# Altium integrated library Diodes - TVS.IntLib: 5379 symbols (part 106 of 122)
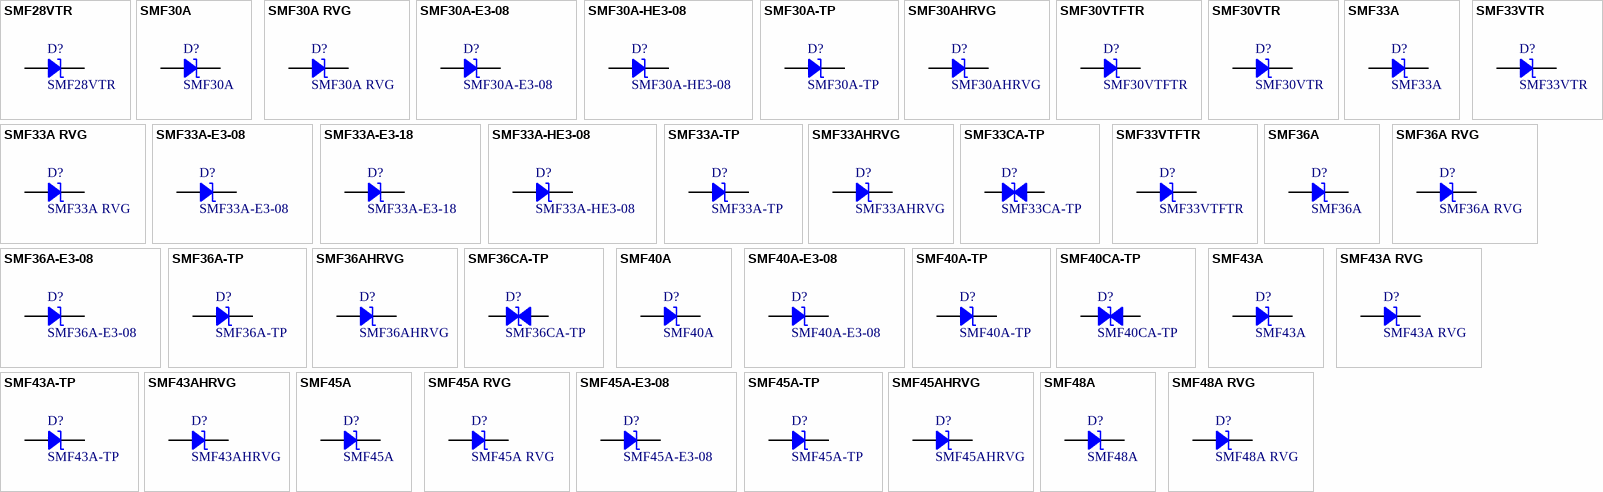
[diagram p239: symbols SMF28VTR to SMF48A RVG]

## SMF36CA-TP
designator D?
TVS DIODE 36V 58.1V SOD123FL; Manufacturer: Micro Commercial Co; Bidirectional Channels: 1; Current - Peak Pulse (10/1000µs): 3.4A; Power Line Protection: No; Power - Peak Pulse: 200W; Type: Zener; Voltage - Breakdown (Min): 40V; Part Number: SMF36CA-TP; Applications: General Purpose; ComponentLink1Description: Datasheet; ComponentLink1URL: https://www.mccsemi.com/pdf/Products/SMF5.0-170(SOD-123FL)-V2.pdf; ComponentLink2Description: DigiKey Link; ComponentLink2URL: http://digikey.com/product-detail/en/micro-commercial-co/SMF36CA-TP/SMF36CA-TPMSCT-ND/7681717; LastUpdated: 9/2/2020 1:28:38 AM; Lifecycle Status: Active; Minimum Order: 1; Mounting Type: Surface Mount; Operating Temperature: -65°C ~ 175°C (TA); Package / Case: SOD-123F; Packaging: TapeAndReel; PartId: 10251; Part Status: Active; Price: 0.09; Series: -; Supplier 1: DigiKey; Supplier Part Number 1: SMF36CA-TPMSCT-ND; Supplier Device Package: SOD-123FL; Voltage - Clamping (Max) @ Ipp: 58.1V; Voltage - Reverse Standoff (Typ): 36V
footprint SOD123F
pins: 1, 2

## SMF40A
designator D?
TVS DIODE 40V 64.5V SOD123F; Manufacturer: Littelfuse Inc.; Current - Peak Pulse (10/1000µs): 3.1A; Power Line Protection: No; Power - Peak Pulse: 200W; Type: Zener; Unidirectional Channels: 1; Voltage - Breakdown (Min): 44.4V; Part Number: SMF40A; Applications: General Purpose; ComponentLink1Description: Datasheet; ComponentLink1URL: https://www.littelfuse.com/~/media/electronics/datasheets/tvs_diodes/littelfuse_tvs_diode_smf_datasheet.pdf.pdf; ComponentLink2Description: DigiKey Link; ComponentLink2URL: http://digikey.com/product-detail/en/littelfuse-inc/SMF40A/F5829CT-ND/3672319; LastUpdated: 9/2/2020 1:28:37 AM; Lifecycle Status: Active; Minimum Order: 1; Mounting Type: Surface Mount; Operating Temperature: -55°C ~ 150°C (TJ); Package / Case: SOD-123F; Packaging: TapeAndReel; PartId: 10217; Part Status: Active; Price: 0.11; Series: SMF; Supplier 1: DigiKey; Supplier Part Number 1: F5829CT-ND; Supplier Device Package: SOD-123F; Voltage - Clamping (Max) @ Ipp: 64.5V; Voltage - Reverse Standoff (Typ): 40V
footprint SOD123F
pins: 1, 2

## SMF40A-E3-08
designator D?
TVS DIODE 40V 64.5V DO219AB; Manufacturer: Vishay Semiconductor Diodes Division; Capacitance @ Frequency: 172pF @ 1MHz; Current - Peak Pulse (10/1000µs): 3.1A; Power Line Protection: No; Power - Peak Pulse: 200W; Type: Zener; Unidirectional Channels: 1; Voltage - Breakdown (Min): 44.4V; Part Number: SMF40A-E3-08; Applications: General Purpose; ComponentLink1Description: Datasheet; ComponentLink1URL: http://www.vishay.com/docs/85881/smf5v0atosmf58a.pdf; ComponentLink2Description: DigiKey Link; ComponentLink2URL: http://digikey.com/product-detail/en/vishay-semiconductor-diodes-division/SMF40A-E3-08/SMF40A-E3-08GICT-ND/5639181; LastUpdated: 9/2/2020 1:27:46 AM; Lifecycle Status: Active; Minimum Order: 1; Mounting Type: Surface Mount; Operating Temperature: -65°C ~ 175°C (TJ); Package / Case: DO-219AB; Packaging: TapeAndReel; PartId: 5545; Part Status: Active; Price: 0.10; Series: -; Supplier 1: DigiKey; Supplier Part Number 1: SMF40A-E3-08GICT-ND; Supplier Device Package: SMF; Voltage - Clamping (Max) @ Ipp: 64.5V; Voltage - Reverse Standoff (Typ): 40V
footprint SMF DO-219AB
pins: 1, 2

## SMF40A-TP
designator D?
TVS DIODE 40V 64.5V SOD123FL; Manufacturer: Micro Commercial Co; Current - Peak Pulse (10/1000µs): 3.1A; Power Line Protection: No; Power - Peak Pulse: 200W; Type: Zener; Unidirectional Channels: 1; Voltage - Breakdown (Min): 44.4V; Part Number: SMF40A-TP; Applications: General Purpose; ComponentLink1Description: Datasheet; ComponentLink1URL: https://www.mccsemi.com/pdf/Products/SMF5.0-170(SOD-123FL)-V2.pdf; ComponentLink2Description: DigiKey Link; ComponentLink2URL: http://digikey.com/product-detail/en/micro-commercial-co/SMF40A-TP/SMF40A-TPMSCT-ND/5114023; LastUpdated: 9/2/2020 1:28:37 AM; Lifecycle Status: Active; Minimum Order: 1; Mounting Type: Surface Mount; Operating Temperature: -65°C ~ 175°C (TA); Package / Case: SOD-123F; Packaging: TapeAndReel; PartId: 10175; Part Status: Active; Price: 0.09; Series: -; Supplier 1: DigiKey; Supplier Part Number 1: SMF40A-TPMSCT-ND; Supplier Device Package: SOD-123FL; Voltage - Clamping (Max) @ Ipp: 64.5V; Voltage - Reverse Standoff (Typ): 40V
footprint SOD123F
pins: 1, 2

## SMF40CA-TP
designator D?
TVS DIODE 40V 64.5V SOD123FL; Manufacturer: Micro Commercial Co; Bidirectional Channels: 1; Current - Peak Pulse (10/1000µs): 3.1A; Power Line Protection: No; Power - Peak Pulse: 200W; Type: Zener; Voltage - Breakdown (Min): 44.4V; Part Number: SMF40CA-TP; Applications: General Purpose; ComponentLink1Description: Datasheet; ComponentLink1URL: https://www.mccsemi.com/pdf/Products/SMF5.0-170(SOD-123FL)-V2.pdf; ComponentLink2Description: DigiKey Link; ComponentLink2URL: http://digikey.com/product-detail/en/micro-commercial-co/SMF40CA-TP/SMF40CA-TPMSCT-ND/5224327; LastUpdated: 9/2/2020 1:28:38 AM; Lifecycle Status: Active; Minimum Order: 1; Mounting Type: Surface Mount; Operating Temperature: -65°C ~ 175°C (TA); Package / Case: SOD-123F; Packaging: TapeAndReel; PartId: 10258; Part Status: Active; Price: 0.09; Series: -; Supplier 1: DigiKey; Supplier Part Number 1: SMF40CA-TPMSCT-ND; Supplier Device Package: SOD-123FL; Voltage - Clamping (Max) @ Ipp: 64.5V; Voltage - Reverse Standoff (Typ): 40V
footprint SOD123F
pins: 1, 2

## SMF43A
designator D?
TVS DIODE 43V 69.4V SOD123F; Manufacturer: Littelfuse Inc.; Current - Peak Pulse (10/1000µs): 2.9A; Power Line Protection: No; Power - Peak Pulse: 200W; Type: Zener; Unidirectional Channels: 1; Voltage - Breakdown (Min): 47.8V; Part Number: SMF43A; Applications: General Purpose; ComponentLink1Description: Datasheet; ComponentLink1URL: https://www.littelfuse.com/~/media/electronics/datasheets/tvs_diodes/littelfuse_tvs_diode_smf_datasheet.pdf.pdf; ComponentLink2Description: DigiKey Link; ComponentLink2URL: http://digikey.com/product-detail/en/littelfuse-inc/SMF43A/F5830CT-ND/3672320; LastUpdated: 9/2/2020 1:28:36 AM; Lifecycle Status: Active; Minimum Order: 1; Mounting Type: Surface Mount; Operating Temperature: -55°C ~ 150°C (TJ); Package / Case: SOD-123F; Packaging: TapeAndReel; PartId: 10081; Part Status: Active; Price: 0.11; Series: SMF; Supplier 1: DigiKey; Supplier Part Number 1: F5830CT-ND; Supplier Device Package: SOD-123F; Voltage - Clamping (Max) @ Ipp: 69.4V; Voltage - Reverse Standoff (Typ): 43V
footprint SOD123F
pins: 1, 2

## SMF43A RVG
designator D?
DIODE, TVS, UNIDIRECTIONAL; Manufacturer: Taiwan Semiconductor Corporation; Current - Peak Pulse (10/1000µs): 2.9A; Power Line Protection: No; Power - Peak Pulse: 200W; Type: Zener; Unidirectional Channels: 1; Voltage - Breakdown (Min): 47.8V; Voltage - Clamping (Max) @ Ipp: 69.4V; Voltage - Reverse Standoff (Typ): 43V; Part Number: SMF43A RVG; Applications: General Purpose; ComponentLink1Description: Datasheet; ComponentLink1URL: https://www.taiwansemi.com/products/datasheet/SMF5.0A%20SERIES_B1709.pdf; ComponentLink2Description: DigiKey Link; ComponentLink2URL: http://digikey.com/product-detail/en/taiwan-semiconductor-corporation/SMF43A-RVG/SMF43ARVGCT-ND/8600433; LastUpdated: 9/2/2020 1:28:40 AM; Lifecycle Status: Active; Minimum Order: 1; Mounting Type: Surface Mount; Operating Temperature: -55°C ~ 175°C (TJ); Package / Case: SOD-123W; Packaging: TapeAndReel; PartId: 10342; Part Status: Active; Price: 0.08; Series: -; Supplier 1: DigiKey; Supplier Part Number 1: SMF43ARVGCT-ND; Supplier Device Package: SOD-123W
footprint SOD-123W
pins: 1, 2

## SMF43A-TP
designator D?
TVS DIODE 43V 69.4V SOD123FL; Manufacturer: Micro Commercial Co; Current - Peak Pulse (10/1000µs): 2.9A; Power Line Protection: No; Power - Peak Pulse: 200W; Type: Zener; Unidirectional Channels: 1; Voltage - Breakdown (Min): 47.8V; Part Number: SMF43A-TP; Applications: General Purpose; ComponentLink1Description: Datasheet; ComponentLink1URL: https://www.mccsemi.com/pdf/Products/SMF5.0-170(SOD-123FL)-F.pdf; ComponentLink2Description: DigiKey Link; ComponentLink2URL: http://digikey.com/product-detail/en/micro-commercial-co/SMF43A-TP/SMF43A-TPMSCT-ND/2268365; LastUpdated: 9/2/2020 1:28:37 AM; Lifecycle Status: Active; Minimum Order: 1; Mounting Type: Surface Mount; Operating Temperature: -65°C ~ 175°C (TA); Package / Case: SOD-123F; Packaging: TapeAndReel; PartId: 10174; Part Status: Active; Price: 0.09; Series: -; Supplier 1: DigiKey; Supplier Part Number 1: SMF43A-TPMSCT-ND; Supplier Device Package: SOD-123FL; Voltage - Clamping (Max) @ Ipp: 69.4V; Voltage - Reverse Standoff (Typ): 43V
footprint SOD123F
pins: 1, 2

## SMF43AHRVG
designator D?
DIODE, TVS, UNIDIRECTIONAL; Manufacturer: Taiwan Semiconductor Corporation; Current - Peak Pulse (10/1000µs): 2.9A; Power Line Protection: No; Power - Peak Pulse: 200W; Type: Zener; Unidirectional Channels: 1; Voltage - Breakdown (Min): 47.8V; Voltage - Clamping (Max) @ Ipp: 69.4V; Voltage - Reverse Standoff (Typ): 43V; Part Number: SMF43AHRVG; Applications: Automotive; ComponentLink1Description: Datasheet; ComponentLink1URL: https://www.taiwansemi.com/products/datasheet/SMF5.0A%20SERIES_B1709.pdf; ComponentLink2Description: DigiKey Link; ComponentLink2URL: http://digikey.com/product-detail/en/taiwan-semiconductor-corporation/SMF43AHRVG/SMF43AHRVGCT-ND/8600434; LastUpdated: 9/2/2020 1:28:40 AM; Lifecycle Status: Active; Minimum Order: 1; Mounting Type: Surface Mount; Operating Temperature: -55°C ~ 175°C (TJ); Package / Case: SOD-123W; Packaging: TapeAndReel; PartId: 10305; Part Status: Active; Price: 0.09; Series: Automotive, AEC-Q101; Supplier 1: DigiKey; Supplier Part Number 1: SMF43AHRVGCT-ND; Supplier Device Package: SOD-123W
footprint SOD-123W
pins: 1, 2

## SMF45A
designator D?
TVS DIODE 45V 72.7V SOD123F; Manufacturer: Littelfuse Inc.; Current - Peak Pulse (10/1000µs): 2.8A; Power Line Protection: No; Power - Peak Pulse: 200W; Type: Zener; Unidirectional Channels: 1; Voltage - Breakdown (Min): 50V; Part Number: SMF45A; Applications: General Purpose; ComponentLink1Description: Datasheet; ComponentLink1URL: https://www.littelfuse.com/~/media/electronics/datasheets/tvs_diodes/littelfuse_tvs_diode_smf_datasheet.pdf.pdf; ComponentLink2Description: DigiKey Link; ComponentLink2URL: http://digikey.com/product-detail/en/littelfuse-inc/SMF45A/F5831CT-ND/3672321; LastUpdated: 9/2/2020 1:28:35 AM; Lifecycle Status: Active; Minimum Order: 1; Mounting Type: Surface Mount; Operating Temperature: -55°C ~ 150°C (TJ); Package / Case: SOD-123F; Packaging: TapeAndReel; PartId: 10038; Part Status: Active; Price: 0.11; Series: SMF; Supplier 1: DigiKey; Supplier Part Number 1: F5831CT-ND; Supplier Device Package: SOD-123F; Voltage - Clamping (Max) @ Ipp: 72.7V; Voltage - Reverse Standoff (Typ): 45V
footprint SOD123F
pins: 1, 2

## SMF45A RVG
designator D?
DIODE, TVS, UNIDIRECTIONAL; Manufacturer: Taiwan Semiconductor Corporation; Current - Peak Pulse (10/1000µs): 2.8A; Power Line Protection: No; Power - Peak Pulse: 200W; Type: Zener; Unidirectional Channels: 1; Voltage - Breakdown (Min): 50V; Voltage - Clamping (Max) @ Ipp: 72.7V; Voltage - Reverse Standoff (Typ): 45V; Part Number: SMF45A RVG; Applications: General Purpose; ComponentLink1Description: Datasheet; ComponentLink1URL: https://www.taiwansemi.com/products/datasheet/SMF5.0A%20SERIES_B1709.pdf; ComponentLink2Description: DigiKey Link; ComponentLink2URL: http://digikey.com/product-detail/en/taiwan-semiconductor-corporation/SMF45A-RVG/SMF45ARVGCT-ND/8600435; LastUpdated: 9/2/2020 1:28:40 AM; Lifecycle Status: Active; Minimum Order: 1; Mounting Type: Surface Mount; Operating Temperature: -55°C ~ 175°C (TJ); Package / Case: SOD-123W; Packaging: TapeAndReel; PartId: 10341; Part Status: Active; Price: 0.08; Series: -; Supplier 1: DigiKey; Supplier Part Number 1: SMF45ARVGCT-ND; Supplier Device Package: SOD-123W
footprint SOD-123W
pins: 1, 2

## SMF45A-E3-08
designator D?
TVS DIODE 45V 72.7V DO219AB; Manufacturer: Vishay Semiconductor Diodes Division; Capacitance @ Frequency: 162pF @ 1MHz; Current - Peak Pulse (10/1000µs): 2.8A; Power Line Protection: No; Power - Peak Pulse: 200W; Type: Zener; Unidirectional Channels: 1; Voltage - Breakdown (Min): 50V; Part Number: SMF45A-E3-08; Applications: General Purpose; ComponentLink1Description: Datasheet; ComponentLink1URL: http://www.vishay.com/docs/85881/smf5v0atosmf58a.pdf; ComponentLink2Description: DigiKey Link; ComponentLink2URL: http://digikey.com/product-detail/en/vishay-semiconductor-diodes-division/SMF45A-E3-08/SMF45A-E3-08GICT-ND/5639183; LastUpdated: 9/2/2020 1:27:45 AM; Lifecycle Status: Active; Minimum Order: 1; Mounting Type: Surface Mount; Operating Temperature: -65°C ~ 175°C (TJ); Package / Case: DO-219AB; Packaging: TapeAndReel; PartId: 5508; Part Status: Active; Price: 0.10; Series: -; Supplier 1: DigiKey; Supplier Part Number 1: SMF45A-E3-08GICT-ND; Supplier Device Package: SMF; Voltage - Clamping (Max) @ Ipp: 72.7V; Voltage - Reverse Standoff (Typ): 45V
footprint SMF DO-219AB
pins: 1, 2

## SMF45A-TP
designator D?
TVS DIODE 45V 72.7V SOD123FL; Manufacturer: Micro Commercial Co; Current - Peak Pulse (10/1000µs): 2.8A; Power Line Protection: No; Power - Peak Pulse: 200W; Type: Zener; Unidirectional Channels: 1; Voltage - Breakdown (Min): 50V; Part Number: SMF45A-TP; Applications: General Purpose; ComponentLink1Description: Datasheet; ComponentLink1URL: https://www.mccsemi.com/pdf/Products/SMF5.0-170(SOD-123FL)-V2.pdf; ComponentLink2Description: DigiKey Link; ComponentLink2URL: http://digikey.com/product-detail/en/micro-commercial-co/SMF45A-TP/SMF45A-TPMSCT-ND/5114024; LastUpdated: 9/2/2020 1:28:36 AM; Lifecycle Status: Active; Minimum Order: 1; Mounting Type: Surface Mount; Operating Temperature: -65°C ~ 175°C (TA); Package / Case: SOD-123F; Packaging: TapeAndReel; PartId: 10075; Part Status: Active; Price: 0.09; Series: -; Supplier 1: DigiKey; Supplier Part Number 1: SMF45A-TPMSCT-ND; Supplier Device Package: SOD-123FL; Voltage - Clamping (Max) @ Ipp: 72.7V; Voltage - Reverse Standoff (Typ): 45V
footprint SOD123F
pins: 1, 2

## SMF45AHRVG
designator D?
DIODE, TVS, UNIDIRECTIONAL; Manufacturer: Taiwan Semiconductor Corporation; Current - Peak Pulse (10/1000µs): 2.8A; Power Line Protection: No; Power - Peak Pulse: 200W; Type: Zener; Unidirectional Channels: 1; Voltage - Breakdown (Min): 50V; Voltage - Clamping (Max) @ Ipp: 72.7V; Voltage - Reverse Standoff (Typ): 45V; Part Number: SMF45AHRVG; Applications: Automotive; ComponentLink1Description: Datasheet; ComponentLink1URL: https://www.taiwansemi.com/products/datasheet/SMF5.0A%20SERIES_B1709.pdf; ComponentLink2Description: DigiKey Link; ComponentLink2URL: http://digikey.com/product-detail/en/taiwan-semiconductor-corporation/SMF45AHRVG/SMF45AHRVGCT-ND/8600436; LastUpdated: 9/2/2020 1:28:40 AM; Lifecycle Status: Active; Minimum Order: 1; Mounting Type: Surface Mount; Operating Temperature: -55°C ~ 175°C (TJ); Package / Case: SOD-123W; Packaging: TapeAndReel; PartId: 10296; Part Status: Active; Price: 0.09; Series: Automotive, AEC-Q101; Supplier 1: DigiKey; Supplier Part Number 1: SMF45AHRVGCT-ND; Supplier Device Package: SOD-123W
footprint SOD-123W
pins: 1, 2

## SMF48A
designator D?
TVS DIODE 48V 77.4V SOD123F; Manufacturer: Littelfuse Inc.; Current - Peak Pulse (10/1000µs): 2.6A; Power Line Protection: No; Power - Peak Pulse: 200W; Type: Zener; Unidirectional Channels: 1; Voltage - Breakdown (Min): 53.3V; Part Number: SMF48A; Applications: General Purpose; ComponentLink1Description: Datasheet; ComponentLink1URL: https://www.littelfuse.com/~/media/electronics/datasheets/tvs_diodes/littelfuse_tvs_diode_smf_datasheet.pdf.pdf; ComponentLink2Description: DigiKey Link; ComponentLink2URL: http://digikey.com/product-detail/en/littelfuse-inc/SMF48A/F5832CT-ND/3672322; LastUpdated: 9/2/2020 1:28:36 AM; Lifecycle Status: Active; Minimum Order: 1; Mounting Type: Surface Mount; Operating Temperature: -55°C ~ 150°C (TJ); Package / Case: SOD-123F; Packaging: TapeAndReel; PartId: 10090; Part Status: Active; Price: 0.11; Series: SMF; Supplier 1: DigiKey; Supplier Part Number 1: F5832CT-ND; Supplier Device Package: SOD-123F; Voltage - Clamping (Max) @ Ipp: 77.4V; Voltage - Reverse Standoff (Typ): 48V
footprint SOD123F
pins: 1, 2

## SMF48A RVG
designator D?
DIODE, TVS, UNIDIRECTIONAL; Manufacturer: Taiwan Semiconductor Corporation; Current - Peak Pulse (10/1000µs): 2.6A; Power Line Protection: No; Power - Peak Pulse: 200W; Type: Zener; Unidirectional Channels: 1; Voltage - Breakdown (Min): 53.3V; Voltage - Clamping (Max) @ Ipp: 77.4V; Voltage - Reverse Standoff (Typ): 48V; Part Number: SMF48A RVG; Applications: General Purpose; ComponentLink1Description: Datasheet; ComponentLink1URL: https://www.taiwansemi.com/products/datasheet/SMF5.0A%20SERIES_B1709.pdf; ComponentLink2Description: DigiKey Link; ComponentLink2URL: http://digikey.com/product-detail/en/taiwan-semiconductor-corporation/SMF48A-RVG/SMF48ARVGCT-ND/8600437; LastUpdated: 9/2/2020 1:28:40 AM; Lifecycle Status: Active; Minimum Order: 1; Mounting Type: Surface Mount; Operating Temperature: -55°C ~ 175°C (TJ); Package / Case: SOD-123W; Packaging: TapeAndReel; PartId: 10314; Part Status: Active; Price: 0.08; Series: -; Supplier 1: DigiKey; Supplier Part Number 1: SMF48ARVGCT-ND; Supplier Device Package: SOD-123W
footprint SOD-123W
pins: 1, 2

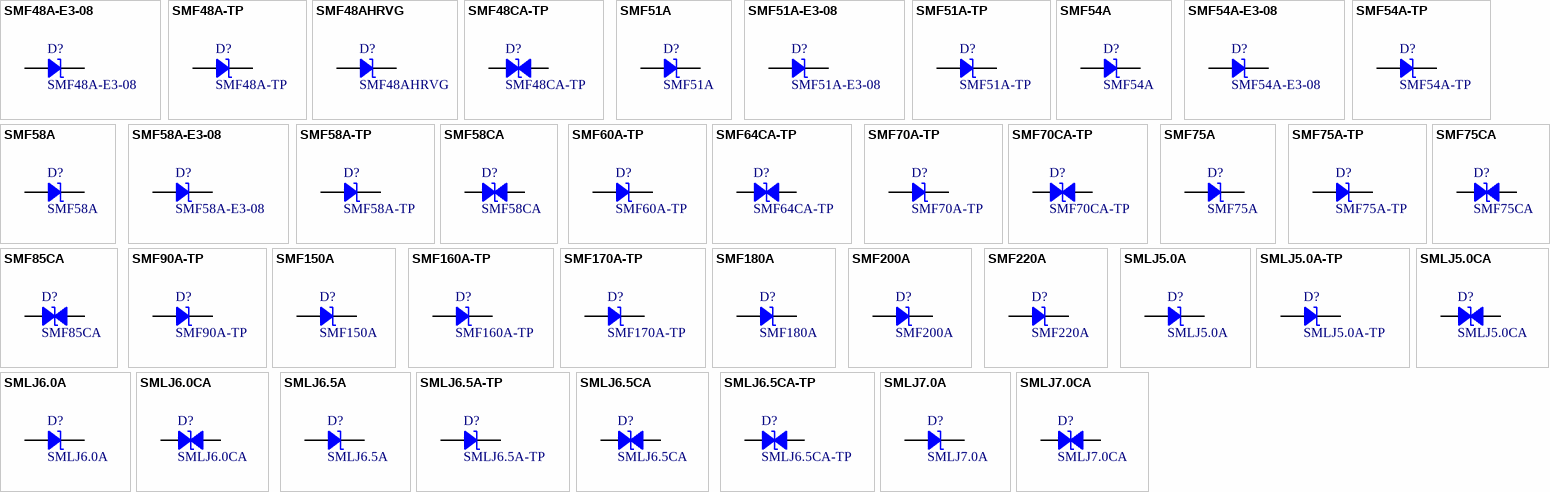
[diagram p117: symbols SMF48A-E3-08 to SMLJ7.0CA]

## SMF48A-E3-08
designator D?
TVS DIODE 48V 77.4V SMF; Manufacturer: Vishay Semiconductor Diodes Division; Capacitance @ Frequency: 161pF @ 1MHz; Current - Peak Pulse (10/1000µs): 2.6A; Power Line Protection: No; Power - Peak Pulse: 200W; Type: Zener; Unidirectional Channels: 1; Voltage - Breakdown (Min): 53.3V; Part Number: SMF48A-E3-08; Applications: General Purpose; ComponentLink1Description: Datasheet; ComponentLink1URL: http://www.vishay.com/docs/85881/smf5v0atosmf58a.pdf; ComponentLink2Description: DigiKey Link; ComponentLink2URL: http://digikey.com/product-detail/en/vishay-semiconductor-diodes-division/SMF48A-E3-08/SMF48A-E3-08CT-ND/3305299; LastUpdated: 9/2/2020 1:27:46 AM; Lifecycle Status: Active; Minimum Order: 1; Mounting Type: Surface Mount; Operating Temperature: -65°C ~ 175°C (TJ); Package / Case: DO-219AB; Packaging: TapeAndReel; PartId: 5547; Part Status: Active; Price: 0.08; Series: -; Supplier 1: DigiKey; Supplier Part Number 1: SMF48A-E3-08CT-ND; Supplier Device Package: SMF; Voltage - Clamping (Max) @ Ipp: 77.4V; Voltage - Reverse Standoff (Typ): 48V
footprint SMF DO-219AB
pins: 1, 2

## SMF48A-TP
designator D?
TVS DIODE 48V 77.4V SOD123FL; Manufacturer: Micro Commercial Co; Current - Peak Pulse (10/1000µs): 2.6A; Power Line Protection: No; Power - Peak Pulse: 200W; Type: Zener; Unidirectional Channels: 1; Voltage - Breakdown (Min): 53.3V; Part Number: SMF48A-TP; Applications: General Purpose; ComponentLink1Description: Datasheet; ComponentLink1URL: https://www.mccsemi.com/pdf/Products/SMF5.0-170(SOD-123FL)-V2.pdf; ComponentLink2Description: DigiKey Link; ComponentLink2URL: http://digikey.com/product-detail/en/micro-commercial-co/SMF48A-TP/SMF48A-TPMSCT-ND/5114025; LastUpdated: 9/2/2020 1:28:37 AM; Lifecycle Status: Active; Minimum Order: 1; Mounting Type: Surface Mount; Operating Temperature: -65°C ~ 175°C (TA); Package / Case: SOD-123F; Packaging: TapeAndReel; PartId: 10185; Part Status: Active; Price: 0.09; Series: -; Supplier 1: DigiKey; Supplier Part Number 1: SMF48A-TPMSCT-ND; Supplier Device Package: SOD-123FL; Voltage - Clamping (Max) @ Ipp: 77.4V; Voltage - Reverse Standoff (Typ): 48V
footprint SOD123F
pins: 1, 2

## SMF48AHRVG
designator D?
DIODE, TVS, UNIDIRECTIONAL; Manufacturer: Taiwan Semiconductor Corporation; Current - Peak Pulse (10/1000µs): 2.6A; Power Line Protection: No; Power - Peak Pulse: 200W; Type: Zener; Unidirectional Channels: 1; Voltage - Breakdown (Min): 53.3V; Voltage - Clamping (Max) @ Ipp: 77.4V; Voltage - Reverse Standoff (Typ): 48V; Part Number: SMF48AHRVG; Applications: Automotive; ComponentLink1Description: Datasheet; ComponentLink1URL: https://www.taiwansemi.com/products/datasheet/SMF5.0A%20SERIES_B1709.pdf; ComponentLink2Description: DigiKey Link; ComponentLink2URL: http://digikey.com/product-detail/en/taiwan-semiconductor-corporation/SMF48AHRVG/SMF48AHRVGCT-ND/8600438; LastUpdated: 9/2/2020 1:28:40 AM; Lifecycle Status: Active; Minimum Order: 1; Mounting Type: Surface Mount; Operating Temperature: -55°C ~ 175°C (TJ); Package / Case: SOD-123W; Packaging: TapeAndReel; PartId: 10295; Part Status: Active; Price: 0.09; Series: Automotive, AEC-Q101; Supplier 1: DigiKey; Supplier Part Number 1: SMF48AHRVGCT-ND; Supplier Device Package: SOD-123W
footprint SOD-123W
pins: 1, 2

## SMF48CA-TP
designator D?
200WTVSSOD-123FL; Manufacturer: Micro Commercial Co; Bidirectional Channels: 1; Current - Peak Pulse (10/1000µs): 2.6A; Power Line Protection: No; Power - Peak Pulse: 200W; Type: Zener; Voltage - Breakdown (Min): 53.3V; Voltage - Clamping (Max) @ Ipp: 77.4V; Voltage - Reverse Standoff (Typ): 48V; Part Number: SMF48CA-TP; Applications: General Purpose; ComponentLink1Description: Datasheet; ComponentLink1URL: https://www.mccsemi.com/pdf/Products/SMF5.0-170(SOD-123FL)-V2.pdf; ComponentLink2Description: DigiKey Link; ComponentLink2URL: http://digikey.com/product-detail/en/micro-commercial-co/SMF48CA-TP/SMF48CA-TPMSCT-ND/10054428; LastUpdated: 9/2/2020 1:28:38 AM; Lifecycle Status: Active; Minimum Order: 1; Mounting Type: Surface Mount; Operating Temperature: -65°C ~ 175°C (TJ); Package / Case: SOD-123F; Packaging: TapeAndReel; PartId: 10252; Part Status: Active; Price: 0.09; Series: -; Supplier 1: DigiKey; Supplier Part Number 1: SMF48CA-TPMSCT-ND; Supplier Device Package: SOD-123FL
footprint SOD123F
pins: 1, 2

## SMF51A
designator D?
TVS DIODE 51V 82.4V SOD123F; Manufacturer: Littelfuse Inc.; Current - Peak Pulse (10/1000µs): 2.4A; Power Line Protection: No; Power - Peak Pulse: 200W; Type: Zener; Unidirectional Channels: 1; Voltage - Breakdown (Min): 56.7V; Part Number: SMF51A; Applications: General Purpose; ComponentLink1Description: Datasheet; ComponentLink1URL: https://www.littelfuse.com/~/media/electronics/datasheets/tvs_diodes/littelfuse_tvs_diode_smf_datasheet.pdf.pdf; ComponentLink2Description: DigiKey Link; ComponentLink2URL: http://digikey.com/product-detail/en/littelfuse-inc/SMF51A/F5833CT-ND/3672323; LastUpdated: 9/2/2020 1:28:35 AM; Lifecycle Status: Active; Minimum Order: 1; Mounting Type: Surface Mount; Operating Temperature: -55°C ~ 150°C (TJ); Package / Case: SOD-123F; Packaging: TapeAndReel; PartId: 10039; Part Status: Active; Price: 0.11; Series: SMF; Supplier 1: DigiKey; Supplier Part Number 1: F5833CT-ND; Supplier Device Package: SOD-123F; Voltage - Clamping (Max) @ Ipp: 82.4V; Voltage - Reverse Standoff (Typ): 51V
footprint SOD123F
pins: 1, 2

## SMF51A-E3-08
designator D?
TVS DIODE 51V 82.4V DO219AB; Manufacturer: Vishay Semiconductor Diodes Division; Capacitance @ Frequency: 151pF @ 1MHz; Current - Peak Pulse (10/1000µs): 2.4A; Power Line Protection: No; Power - Peak Pulse: 200W; Type: Zener; Unidirectional Channels: 1; Voltage - Breakdown (Min): 56.7V; Part Number: SMF51A-E3-08; Applications: General Purpose; ComponentLink1Description: Datasheet; ComponentLink1URL: http://www.vishay.com/docs/85881/smf5v0atosmf58a.pdf; ComponentLink2Description: DigiKey Link; ComponentLink2URL: http://digikey.com/product-detail/en/vishay-semiconductor-diodes-division/SMF51A-E3-08/SMF51A-E3-08GICT-ND/5639184; LastUpdated: 9/2/2020 1:27:45 AM; Lifecycle Status: Active; Minimum Order: 1; Mounting Type: Surface Mount; Operating Temperature: -65°C ~ 175°C (TJ); Package / Case: DO-219AB; Packaging: TapeAndReel; PartId: 5507; Part Status: Active; Price: 0.10; Series: -; Supplier 1: DigiKey; Supplier Part Number 1: SMF51A-E3-08GICT-ND; Supplier Device Package: SMF; Voltage - Clamping (Max) @ Ipp: 82.4V; Voltage - Reverse Standoff (Typ): 51V
footprint SMF DO-219AB
pins: 1, 2

## SMF51A-TP
designator D?
TVS DIODE 51V 82.4V SOD123FL; Manufacturer: Micro Commercial Co; Current - Peak Pulse (10/1000µs): 2.4A; Power Line Protection: No; Power - Peak Pulse: 200W; Type: Zener; Unidirectional Channels: 1; Voltage - Breakdown (Min): 56.7V; Part Number: SMF51A-TP; Applications: General Purpose; ComponentLink1Description: Datasheet; ComponentLink1URL: https://www.mccsemi.com/pdf/Products/SMF5.0-170(SOD-123FL)-V2.pdf; ComponentLink2Description: DigiKey Link; ComponentLink2URL: http://digikey.com/product-detail/en/micro-commercial-co/SMF51A-TP/SMF51A-TPMSCT-ND/2268369; LastUpdated: 9/2/2020 1:28:36 AM; Lifecycle Status: Active; Minimum Order: 1; Mounting Type: Surface Mount; Operating Temperature: -65°C ~ 175°C (TA); Package / Case: SOD-123F; Packaging: TapeAndReel; PartId: 10072; Part Status: Active; Price: 0.09; Series: -; Supplier 1: DigiKey; Supplier Part Number 1: SMF51A-TPMSCT-ND; Supplier Device Package: SOD-123FL; Voltage - Clamping (Max) @ Ipp: 82.4V; Voltage - Reverse Standoff (Typ): 51V
footprint SOD123F
pins: 1, 2

## SMF54A
designator D?
TVS DIODE 54V 87.1V SOD123F; Manufacturer: Littelfuse Inc.; Current - Peak Pulse (10/1000µs): 2.3A; Power Line Protection: No; Power - Peak Pulse: 200W; Type: Zener; Unidirectional Channels: 1; Voltage - Breakdown (Min): 60V; Part Number: SMF54A; Applications: General Purpose; ComponentLink1Description: Datasheet; ComponentLink1URL: https://www.littelfuse.com/~/media/electronics/datasheets/tvs_diodes/littelfuse_tvs_diode_smf_datasheet.pdf.pdf; ComponentLink2Description: DigiKey Link; ComponentLink2URL: http://digikey.com/product-detail/en/littelfuse-inc/SMF54A/F5834CT-ND/3672324; LastUpdated: 9/2/2020 1:28:36 AM; Lifecycle Status: Active; Minimum Order: 1; Mounting Type: Surface Mount; Operating Temperature: -55°C ~ 150°C (TJ); Package / Case: SOD-123F; Packaging: TapeAndReel; PartId: 10134; Part Status: Active; Price: 0.11; Series: SMF; Supplier 1: DigiKey; Supplier Part Number 1: F5834CT-ND; Supplier Device Package: SOD-123F; Voltage - Clamping (Max) @ Ipp: 87.1V; Voltage - Reverse Standoff (Typ): 54V
footprint SOD123F
pins: 1, 2

## SMF54A-E3-08
designator D?
TVS DIODE 54V 88V DO219AB; Manufacturer: Vishay Semiconductor Diodes Division; Capacitance @ Frequency: 148pF @ 1MHz; Current - Peak Pulse (10/1000µs): 2.25A; Power Line Protection: No; Power - Peak Pulse: 200W; Type: Zener; Unidirectional Channels: 1; Voltage - Breakdown (Min): 60V; Part Number: SMF54A-E3-08; Applications: General Purpose; ComponentLink1Description: Datasheet; ComponentLink1URL: http://www.vishay.com/docs/85881/smf5v0atosmf58a.pdf; ComponentLink2Description: DigiKey Link; ComponentLink2URL: http://digikey.com/product-detail/en/vishay-semiconductor-diodes-division/SMF54A-E3-08/SMF54A-E3-08GICT-ND/5639185; LastUpdated: 9/2/2020 1:27:45 AM; Lifecycle Status: Active; Minimum Order: 1; Mounting Type: Surface Mount; Operating Temperature: -65°C ~ 175°C (TJ); Package / Case: DO-219AB; Packaging: TapeAndReel; PartId: 5505; Part Status: Active; Price: 0.10; Series: -; Supplier 1: DigiKey; Supplier Part Number 1: SMF54A-E3-08GICT-ND; Supplier Device Package: SMF (DO-219AB); Voltage - Clamping (Max) @ Ipp: 88V; Voltage - Reverse Standoff (Typ): 54V
footprint SMF DO-219AB
pins: 1, 2

## SMF54A-TP
designator D?
TVS DIODE 54V 87.1V SOD123FL; Manufacturer: Micro Commercial Co; Current - Peak Pulse (10/1000µs): 2.3A; Power Line Protection: No; Power - Peak Pulse: 200W; Type: Zener; Unidirectional Channels: 1; Voltage - Breakdown (Min): 60V; Part Number: SMF54A-TP; Applications: General Purpose; ComponentLink1Description: Datasheet; ComponentLink1URL: https://www.mccsemi.com/pdf/Products/SMF5.0-170(SOD-123FL)-V2.pdf; ComponentLink2Description: DigiKey Link; ComponentLink2URL: http://digikey.com/product-detail/en/micro-commercial-co/SMF54A-TP/SMF54A-TPMSCT-ND/5114026; LastUpdated: 9/2/2020 1:28:37 AM; Lifecycle Status: Active; Minimum Order: 1; Mounting Type: Surface Mount; Operating Temperature: -65°C ~ 175°C (TA); Package / Case: SOD-123F; Packaging: TapeAndReel; PartId: 10178; Part Status: Active; Price: 0.09; Series: -; Supplier 1: DigiKey; Supplier Part Number 1: SMF54A-TPMSCT-ND; Supplier Device Package: SOD-123FL; Voltage - Clamping (Max) @ Ipp: 87.1V; Voltage - Reverse Standoff (Typ): 54V
footprint SOD123F
pins: 1, 2

## SMF58A
designator D?
TVS DIODE 58V 93.6V SOD123FL; Manufacturer: Littelfuse Inc.; Current - Peak Pulse (10/1000µs): 2.1A; Power Line Protection: No; Power - Peak Pulse: 200W; Type: Zener; Unidirectional Channels: 1; Voltage - Breakdown (Min): 64.4V; Part Number: SMF58A; Applications: General Purpose; ComponentLink1Description: Datasheet; ComponentLink1URL: https://www.littelfuse.com/~/media/electronics/datasheets/tvs_diodes/littelfuse_tvs_diode_smf_datasheet.pdf.pdf; ComponentLink2Description: DigiKey Link; ComponentLink2URL: http://digikey.com/product-detail/en/littelfuse-inc/SMF58A/SMF58ACT-ND/9841933; LastUpdated: 9/2/2020 1:28:36 AM; Lifecycle Status: Active; Minimum Order: 1; Mounting Type: Surface Mount; Operating Temperature: -55°C ~ 150°C (TJ); Package / Case: SOD-123F; Packaging: TapeAndReel; PartId: 10070; Part Status: Active; Price: 0.11; Series: SMF; Supplier 1: DigiKey; Supplier Part Number 1: SMF58ACT-ND; Supplier Device Package: SOD-123FL; Voltage - Clamping (Max) @ Ipp: 93.6V; Voltage - Reverse Standoff (Typ): 58V
footprint SOD123F
pins: 1, 2

## SMF58A-E3-08
designator D?
TVS DIODE 58V 95V DO219AB; Manufacturer: Vishay Semiconductor Diodes Division; Capacitance @ Frequency: 144pF @ 1MHz; Current - Peak Pulse (10/1000µs): 2.1A; Power Line Protection: No; Power - Peak Pulse: 200W; Type: Zener; Unidirectional Channels: 1; Voltage - Breakdown (Min): 64.4V; Part Number: SMF58A-E3-08; Applications: General Purpose; ComponentLink1Description: Datasheet; ComponentLink1URL: http://www.vishay.com/docs/85881/smf5v0atosmf58a.pdf; ComponentLink2Description: DigiKey Link; ComponentLink2URL: http://digikey.com/product-detail/en/vishay-semiconductor-diodes-division/SMF58A-E3-08/SMF58A-E3-08GICT-ND/9601160; LastUpdated: 9/2/2020 1:27:45 AM; Lifecycle Status: Active; Minimum Order: 1; Mounting Type: Surface Mount; Operating Temperature: -65°C ~ 175°C (TJ); Package / Case: DO-219AB; Packaging: TapeAndReel; PartId: 5525; Part Status: Active; Price: 0.10; Series: -; Supplier 1: DigiKey; Supplier Part Number 1: SMF58A-E3-08GICT-ND; Supplier Device Package: SMF (DO-219AB); Voltage - Clamping (Max) @ Ipp: 95V; Voltage - Reverse Standoff (Typ): 58V
footprint SMF DO-219AB
pins: 1, 2

## SMF58A-TP
designator D?
TVS DIODE 58V 93.6V SOD123FL; Manufacturer: Micro Commercial Co; Current - Peak Pulse (10/1000µs): 2.1A; Power Line Protection: No; Power - Peak Pulse: 200W; Type: Zener; Unidirectional Channels: 1; Voltage - Breakdown (Min): 64.4V; Part Number: SMF58A-TP; Applications: General Purpose; ComponentLink1Description: Datasheet; ComponentLink1URL: https://www.mccsemi.com/pdf/Products/SMF5.0-170(SOD-123FL)-V2.pdf; ComponentLink2Description: DigiKey Link; ComponentLink2URL: http://digikey.com/product-detail/en/micro-commercial-co/SMF58A-TP/SMF58A-TPMSCT-ND/5114027; LastUpdated: 9/2/2020 1:28:36 AM; Lifecycle Status: Active; Minimum Order: 1; Mounting Type: Surface Mount; Operating Temperature: -65°C ~ 175°C (TA); Package / Case: SOD-123F; Packaging: TapeAndReel; PartId: 10071; Part Status: Active; Price: 0.09; Series: -; Supplier 1: DigiKey; Supplier Part Number 1: SMF58A-TPMSCT-ND; Supplier Device Package: SOD-123FL; Voltage - Clamping (Max) @ Ipp: 93.6V; Voltage - Reverse Standoff (Typ): 58V
footprint SOD123F
pins: 1, 2

## SMF58CA
designator D?
TVS DIODE 200W BI 58V SMD; Manufacturer: Littelfuse Inc.; Bidirectional Channels: 1; Current - Peak Pulse (10/1000µs): 2.1A; Power Line Protection: No; Type: Zener; Voltage - Breakdown (Min): 64.4V; Voltage - Clamping (Max) @ Ipp: 93.6V; Part Number: SMF58CA; Applications: General Purpose; ComponentLink1Description: Datasheet; ComponentLink1URL: https://www.littelfuse.com/~/media/electronics/datasheets/tvs_diodes/littelfuse_tvs_diode_smf_datasheet.pdf.pdf; ComponentLink2Description: DigiKey Link; ComponentLink2URL: http://digikey.com/product-detail/en/littelfuse-inc/SMF58CA/18-SMF58CACT-ND/11206255; LastUpdated: 9/2/2020 1:28:38 AM; Lifecycle Status: Active; Minimum Order: 1; Mounting Type: Surface Mount; Operating Temperature: -65°C ~ 150°C (TJ); Package / Case: SOD-123F; Packaging: Unknown; PartId: 10227; Part Status: Active; Power - Peak Pulse: 200W; Price: 0.12; Series: SMF; Supplier 1: DigiKey; Supplier Part Number 1: 18-SMF58CACT-ND; Supplier Device Package: SOD-123FL; Voltage - Reverse Standoff (Typ): 58V
footprint SOD123F
pins: 1, 2

## SMF60A-TP
designator D?
TVS DIODE 60V 96.8V SOD123FL; Manufacturer: Micro Commercial Co; Current - Peak Pulse (10/1000µs): 1.8A; Power Line Protection: No; Power - Peak Pulse: 200W; Type: Zener; Unidirectional Channels: 1; Voltage - Breakdown (Min): 66.7V; Part Number: SMF60A-TP; Applications: General Purpose; ComponentLink1Description: Datasheet; ComponentLink1URL: https://www.mccsemi.com/pdf/Products/SMF5.0-170(SOD-123FL)-V2.pdf; ComponentLink2Description: DigiKey Link; ComponentLink2URL: http://digikey.com/product-detail/en/micro-commercial-co/SMF60A-TP/SMF60A-TPMSCT-ND/5114030; LastUpdated: 9/2/2020 1:28:37 AM; Lifecycle Status: Active; Minimum Order: 1; Mounting Type: Surface Mount; Operating Temperature: -65°C ~ 175°C (TA); Package / Case: SOD-123F; Packaging: TapeAndReel; PartId: 10201; Part Status: Active; Price: 0.09; Series: -; Supplier 1: DigiKey; Supplier Part Number 1: SMF60A-TPMSCT-ND; Supplier Device Package: SOD-123FL; Voltage - Clamping (Max) @ Ipp: 96.8V; Voltage - Reverse Standoff (Typ): 60V
footprint SOD123F
pins: 1, 2

## SMF64CA-TP
designator D?
200WTVSSOD-123FL; Manufacturer: Micro Commercial Co; Bidirectional Channels: 1; Current - Peak Pulse (10/1000µs): 1.7A; Power Line Protection: No; Power - Peak Pulse: 200W; Type: Zener; Voltage - Breakdown (Min): 71.1V; Voltage - Clamping (Max) @ Ipp: 103V; Voltage - Reverse Standoff (Typ): 64V; Part Number: SMF64CA-TP; Applications: General Purpose; ComponentLink1Description: Datasheet; ComponentLink1URL: https://www.mccsemi.com/pdf/Products/SMF5.0-170(SOD-123FL)-V2.pdf; ComponentLink2Description: DigiKey Link; ComponentLink2URL: http://digikey.com/product-detail/en/micro-commercial-co/SMF64CA-TP/SMF64CA-TPMSCT-ND/10054429; LastUpdated: 9/2/2020 1:28:38 AM; Lifecycle Status: Active; Minimum Order: 1; Mounting Type: Surface Mount; Operating Temperature: -65°C ~ 175°C (TJ); Package / Case: SOD-123F; Packaging: TapeAndReel; PartId: 10250; Part Status: Active; Price: 0.09; Series: -; Supplier 1: DigiKey; Supplier Part Number 1: SMF64CA-TPMSCT-ND; Supplier Device Package: SOD-123FL
footprint SOD123F
pins: 1, 2

## SMF70A-TP
designator D?
70V, 200W, UNIDIRECTIONA TVS, SO; Manufacturer: Micro Commercial Co; Current - Peak Pulse (10/1000µs): 1.5A; Power Line Protection: No; Type: Zener; Unidirectional Channels: 1; Voltage - Breakdown (Min): 77.8V; Voltage - Clamping (Max) @ Ipp: 113V; Part Number: SMF70A-TP; Applications: General Purpose; ComponentLink1Description: Datasheet; ComponentLink1URL: https://www.mccsemi.com/pdf/Products/SMF5.0-170(SOD-123FL)-V2.pdf; ComponentLink2Description: DigiKey Link; ComponentLink2URL: http://digikey.com/product-detail/en/micro-commercial-co/SMF70A-TP/SMF70A-TPMSCT-ND/8554567; LastUpdated: 9/2/2020 1:28:36 AM; Lifecycle Status: Active; Minimum Order: 1; Mounting Type: Surface Mount; Operating Temperature: -65°C ~ 175°C (TA); Package / Case: SOD-123F; Packaging: TapeAndReel; PartId: 10068; Part Status: Active; Power - Peak Pulse: 200W; Price: 0.09; Series: -; Supplier 1: DigiKey; Supplier Part Number 1: SMF70A-TPMSCT-ND; Supplier Device Package: SOD-123FL; Voltage - Reverse Standoff (Typ): 70V
footprint SOD123F
pins: 1, 2

## SMF70CA-TP
designator D?
200WTVSSOD-123FL; Manufacturer: Micro Commercial Co; Bidirectional Channels: 1; Current - Peak Pulse (10/1000µs): 1.5A; Power Line Protection: No; Power - Peak Pulse: 200W; Type: Zener; Voltage - Breakdown (Min): 77.8V; Voltage - Clamping (Max) @ Ipp: 113V; Voltage - Reverse Standoff (Typ): 70V; Part Number: SMF70CA-TP; Applications: General Purpose; ComponentLink1Description: Datasheet; ComponentLink1URL: https://www.mccsemi.com/pdf/Products/SMF5.0-170(SOD-123FL)-V2.pdf; ComponentLink2Description: DigiKey Link; ComponentLink2URL: http://digikey.com/product-detail/en/micro-commercial-co/SMF70CA-TP/SMF70CA-TPMSCT-ND/10054430; LastUpdated: 9/2/2020 1:28:38 AM; Lifecycle Status: Active; Minimum Order: 1; Mounting Type: Surface Mount; Operating Temperature: -65°C ~ 175°C (TJ); Package / Case: SOD-123F; Packaging: TapeAndReel; PartId: 10255; Part Status: Active; Price: 0.09; Series: -; Supplier 1: DigiKey; Supplier Part Number 1: SMF70CA-TPMSCT-ND; Supplier Device Package: SOD-123FL
footprint SOD123F
pins: 1, 2

## SMF75A
designator D?
TVS DIODE 75V 121V SOD123FL; Manufacturer: Littelfuse Inc.; Current - Peak Pulse (10/1000µs): 1.4A; Power Line Protection: No; Power - Peak Pulse: 200W; Type: Zener; Unidirectional Channels: 1; Voltage - Breakdown (Min): 83.3V; Part Number: SMF75A; Applications: General Purpose; ComponentLink1Description: Datasheet; ComponentLink1URL: https://www.littelfuse.com/~/media/electronics/datasheets/tvs_diodes/littelfuse_tvs_diode_smf_datasheet.pdf.pdf; ComponentLink2Description: DigiKey Link; ComponentLink2URL: http://digikey.com/product-detail/en/littelfuse-inc/SMF75A/F10084CT-ND/7326206; LastUpdated: 9/2/2020 1:28:36 AM; Lifecycle Status: Active; Minimum Order: 1; Mounting Type: Surface Mount; Operating Temperature: -65°C ~ 150°C (TJ); Package / Case: SOD-123F; Packaging: TapeAndReel; PartId: 10080; Part Status: Active; Price: 0.11; Series: SMF; Supplier 1: DigiKey; Supplier Part Number 1: F10084CT-ND; Supplier Device Package: SOD-123FL; Voltage - Clamping (Max) @ Ipp: 121V; Voltage - Reverse Standoff (Typ): 75V
footprint SOD123F
pins: 1, 2

## SMF75A-TP
designator D?
TVS DIODE 75V 121V SOD123FL; Manufacturer: Micro Commercial Co; Current - Peak Pulse (10/1000µs): 1.4A; Power Line Protection: No; Power - Peak Pulse: 200W; Type: Zener; Unidirectional Channels: 1; Voltage - Breakdown (Min): 83.3V; Part Number: SMF75A-TP; Applications: General Purpose; ComponentLink1Description: Datasheet; ComponentLink1URL: https://www.mccsemi.com/pdf/Products/SMF5.0-170(SOD-123FL)-F.pdf; ComponentLink2Description: DigiKey Link; ComponentLink2URL: http://digikey.com/product-detail/en/micro-commercial-co/SMF75A-TP/SMF75A-TPMSCT-ND/5114032; LastUpdated: 9/2/2020 1:28:37 AM; Lifecycle Status: Active; Minimum Order: 1; Mounting Type: Surface Mount; Operating Temperature: -65°C ~ 175°C (TA); Package / Case: SOD-123F; Packaging: TapeAndReel; PartId: 10183; Part Status: Active; Price: 0.09; Series: -; Supplier 1: DigiKey; Supplier Part Number 1: SMF75A-TPMSCT-ND; Supplier Device Package: SOD-123FL; Voltage - Clamping (Max) @ Ipp: 121V; Voltage - Reverse Standoff (Typ): 75V
footprint SOD123F
pins: 1, 2

## SMF75CA
designator D?
TVS DIODE 200W BI 75V SMD; Manufacturer: Littelfuse Inc.; Bidirectional Channels: 1; Current - Peak Pulse (10/1000µs): 1.4A; Power Line Protection: No; Type: SOD-123F; Voltage - Breakdown (Min): 83.3V; Voltage - Clamping (Max) @ Ipp: 121V; Part Number: SMF75CA; Applications: General Purpose; ComponentLink1Description: Datasheet; ComponentLink1URL: https://www.littelfuse.com/~/media/electronics/datasheets/tvs_diodes/littelfuse_tvs_diode_smf_datasheet.pdf.pdf; ComponentLink2Description: DigiKey Link; ComponentLink2URL: http://digikey.com/product-detail/en/littelfuse-inc/SMF75CA/18-SMF75CACT-ND/11206248; LastUpdated: 9/2/2020 1:28:38 AM; Lifecycle Status: Active; Minimum Order: 1; Mounting Type: Surface Mount; Operating Temperature: -65°C ~ 150°C (TJ); Package / Case: SOD-123F; Packaging: TapeAndReel; PartId: 10225; Part Status: -65°C ~ 150°C (TJ); Power - Peak Pulse: 200W; Price: 0.12; Series: SMF; Supplier 1: DigiKey; Supplier Part Number 1: 18-SMF75CACT-ND; Supplier Device Package: SOD-123FL; Voltage - Reverse Standoff (Typ): 75V
footprint SOD123F
pins: 1, 2

## SMF85CA
designator D?
TVS DIODE 200W BI 85V SMD; Manufacturer: Littelfuse Inc.; Bidirectional Channels: 1; Current - Peak Pulse (10/1000µs): 1.3A; Power Line Protection: No; Type: SOD-123F; Voltage - Breakdown (Min): 94.4V; Voltage - Clamping (Max) @ Ipp: 137V; Part Number: SMF85CA; Applications: General Purpose; ComponentLink1Description: Datasheet; ComponentLink1URL: https://www.littelfuse.com/~/media/electronics/datasheets/tvs_diodes/littelfuse_tvs_diode_smf_datasheet.pdf.pdf; ComponentLink2Description: DigiKey Link; ComponentLink2URL: http://digikey.com/product-detail/en/littelfuse-inc/SMF85CA/18-SMF85CACT-ND/11206250; LastUpdated: 9/2/2020 1:28:38 AM; Lifecycle Status: Active; Minimum Order: 1; Mounting Type: Surface Mount; Operating Temperature: -65°C ~ 150°C (TJ); Package / Case: SOD-123F; Packaging: TapeAndReel; PartId: 10226; Part Status: -65°C ~ 150°C (TJ); Power - Peak Pulse: 200W; Price: 0.12; Series: SMF; Supplier 1: DigiKey; Supplier Part Number 1: 18-SMF85CACT-ND; Supplier Device Package: SOD-123FL; Voltage - Reverse Standoff (Typ): 85V
footprint SOD123F
pins: 1, 2

## SMF90A-TP
designator D?
TVS DIODE 90V 146V SOD123FL; Manufacturer: Micro Commercial Co; Current - Peak Pulse (10/1000µs): 1.2A; Power Line Protection: No; Power - Peak Pulse: 200W; Type: Zener; Unidirectional Channels: 1; Voltage - Breakdown (Min): 100V; Part Number: SMF90A-TP; Applications: General Purpose; ComponentLink1Description: Datasheet; ComponentLink1URL: https://www.mccsemi.com/pdf/Products/SMF5.0-170(SOD-123FL)-F.pdf; ComponentLink2Description: DigiKey Link; ComponentLink2URL: http://digikey.com/product-detail/en/micro-commercial-co/SMF90A-TP/SMF90A-TPMSCT-ND/5114034; LastUpdated: 9/2/2020 1:28:37 AM; Lifecycle Status: Active; Minimum Order: 1; Mounting Type: Surface Mount; Operating Temperature: -65°C ~ 175°C (TA); Package / Case: SOD-123F; Packaging: TapeAndReel; PartId: 10180; Part Status: Active; Price: 0.09; Series: -; Supplier 1: DigiKey; Supplier Part Number 1: SMF90A-TPMSCT-ND; Supplier Device Package: SOD-123FL; Voltage - Clamping (Max) @ Ipp: 146V; Voltage - Reverse Standoff (Typ): 90V
footprint SOD123F
pins: 1, 2

## SMF150A
designator D?
TVS DIODE 200W BI 150V SMD; Manufacturer: Littelfuse Inc.; Current - Peak Pulse (10/1000µs): 800mA; Power Line Protection: No; Type: Zener; Unidirectional Channels: 1; Voltage - Breakdown (Min): 167V; Voltage - Clamping (Max) @ Ipp: 243V; Part Number: SMF150A; Applications: General Purpose; ComponentLink1Description: Datasheet; ComponentLink1URL: https://www.littelfuse.com/~/media/electronics/datasheets/tvs_diodes/littelfuse_tvs_diode_smf_datasheet.pdf.pdf; ComponentLink2Description: DigiKey Link; ComponentLink2URL: http://digikey.com/product-detail/en/littelfuse-inc/SMF150A/18-SMF150ACT-ND/11206253; LastUpdated: 9/2/2020 1:28:35 AM; Lifecycle Status: Active; Minimum Order: 1; Mounting Type: Surface Mount; Operating Temperature: -65°C ~ 150°C (TJ); Package / Case: SOD-123F; Packaging: TapeAndReel; PartId: 10031; Part Status: Active; Power - Peak Pulse: 200W; Price: 0.12; Series: SMF; Supplier 1: DigiKey; Supplier Part Number 1: 18-SMF150ACT-ND; Supplier Device Package: SOD-123FL; Voltage - Reverse Standoff (Typ): 150V
footprint SOD123F
pins: 1, 2

## SMF160A-TP
designator D?
TVS DIODE 160V 259V SOD123FL; Manufacturer: Micro Commercial Co; Current - Peak Pulse (10/1000µs): 700mA; Power Line Protection: No; Power - Peak Pulse: 200W; Type: Zener; Unidirectional Channels: 1; Voltage - Breakdown (Min): 178V; Part Number: SMF160A-TP; Applications: General Purpose; ComponentLink1Description: Datasheet; ComponentLink1URL: https://www.mccsemi.com/pdf/Products/SMF5.0-170(SOD-123FL)-F.pdf; ComponentLink2Description: DigiKey Link; ComponentLink2URL: http://digikey.com/product-detail/en/micro-commercial-co/SMF160A-TP/SMF160A-TPMSCT-ND/2268361; LastUpdated: 9/2/2020 1:28:36 AM; Lifecycle Status: Active; Minimum Order: 1; Mounting Type: Surface Mount; Operating Temperature: -65°C ~ 175°C (TA); Package / Case: SOD-123F; Packaging: TapeAndReel; PartId: 10111; Part Status: Active; Price: 0.09; Series: -; Supplier 1: DigiKey; Supplier Part Number 1: SMF160A-TPMSCT-ND; Supplier Device Package: SOD-123FL; Voltage - Clamping (Max) @ Ipp: 259V; Voltage - Reverse Standoff (Typ): 160V
footprint SOD123F
pins: 1, 2

## SMF170A-TP
designator D?
200WTVSSOD-123FL; Manufacturer: Micro Commercial Co; Current - Peak Pulse (10/1000µs): 600mA; Power Line Protection: No; Power - Peak Pulse: 200W; Type: Zener; Unidirectional Channels: 1; Voltage - Breakdown (Min): 189V; Voltage - Clamping (Max) @ Ipp: 275V; Voltage - Reverse Standoff (Typ): 170V; Part Number: SMF170A-TP; Applications: General Purpose; ComponentLink1Description: Datasheet; ComponentLink1URL: https://www.mccsemi.com/pdf/Products/SMF5.0-170(SOD-123FL)-V2.pdf; ComponentLink2Description: DigiKey Link; ComponentLink2URL: http://digikey.com/product-detail/en/micro-commercial-co/SMF170A-TP/SMF170A-TPMSCT-ND/10054427; LastUpdated: 9/2/2020 1:28:37 AM; Lifecycle Status: Active; Minimum Order: 1; Mounting Type: Surface Mount; Operating Temperature: -65°C ~ 175°C (TJ); Package / Case: SOD-123F; Packaging: TapeAndReel; PartId: 10182; Part Status: Active; Price: 0.09; Series: -; Supplier 1: DigiKey; Supplier Part Number 1: SMF170A-TPMSCT-ND; Supplier Device Package: SOD-123FL
footprint SOD123F
pins: 1, 2

## SMF180A
designator D?
TVS DIODE 200W BI 180V SMD; Manufacturer: Littelfuse Inc.; Current - Peak Pulse (10/1000µs): 700mA; Power Line Protection: No; Type: Zener; Unidirectional Channels: 1; Voltage - Breakdown (Min): 201V; Voltage - Clamping (Max) @ Ipp: 292V; Part Number: SMF180A; Applications: General Purpose; ComponentLink1Description: Datasheet; ComponentLink1URL: https://www.littelfuse.com/~/media/electronics/datasheets/tvs_diodes/littelfuse_tvs_diode_smf_datasheet.pdf.pdf; ComponentLink2Description: DigiKey Link; ComponentLink2URL: http://digikey.com/product-detail/en/littelfuse-inc/SMF180A/18-SMF180ACT-ND/11206257; LastUpdated: 9/2/2020 1:28:35 AM; Lifecycle Status: Active; Minimum Order: 1; Mounting Type: Surface Mount; Operating Temperature: -65°C ~ 150°C (TJ); Package / Case: SOD-123F; Packaging: TapeAndReel; PartId: 10030; Part Status: Active; Power - Peak Pulse: 200W; Price: 0.12; Series: SMF; Supplier 1: DigiKey; Supplier Part Number 1: 18-SMF180ACT-ND; Supplier Device Package: SOD-123FL; Voltage - Reverse Standoff (Typ): 180V
footprint SOD123F
pins: 1, 2

## SMF200A
designator D?
TVS DIODE 200W BI 200V SMD; Manufacturer: Littelfuse Inc.; Current - Peak Pulse (10/1000µs): 600mA; Power Line Protection: No; Type: Zener; Unidirectional Channels: 1; Voltage - Breakdown (Min): 224V; Voltage - Clamping (Max) @ Ipp: 324V; Part Number: SMF200A; Applications: General Purpose; ComponentLink1Description: Datasheet; ComponentLink1URL: https://www.littelfuse.com/~/media/electronics/datasheets/tvs_diodes/littelfuse_tvs_diode_smf_datasheet.pdf.pdf; ComponentLink2Description: DigiKey Link; ComponentLink2URL: http://digikey.com/product-detail/en/littelfuse-inc/SMF200A/18-SMF200ACT-ND/11206252; LastUpdated: 9/2/2020 1:28:35 AM; Lifecycle Status: Active; Minimum Order: 1; Mounting Type: Surface Mount; Operating Temperature: -65°C ~ 150°C (TJ); Package / Case: SOD-123F; Packaging: Unknown; PartId: 10034; Part Status: Active; Power - Peak Pulse: 200W; Price: 0.12; Series: SMF; Supplier 1: DigiKey; Supplier Part Number 1: 18-SMF200ACT-ND; Supplier Device Package: SOD-123FL; Voltage - Reverse Standoff (Typ): 200V
footprint SOD123F
pins: 1, 2

## SMF220A
designator D?
TVS DIODE 200W BI 220V SMD; Manufacturer: Littelfuse Inc.; Current - Peak Pulse (10/1000µs): 600mA; Power Line Protection: No; Type: Zener; Unidirectional Channels: 1; Voltage - Breakdown (Min): 246V; Voltage - Clamping (Max) @ Ipp: 356V; Part Number: SMF220A; Applications: General Purpose; ComponentLink1Description: Datasheet; ComponentLink1URL: https://www.littelfuse.com/~/media/electronics/datasheets/tvs_diodes/littelfuse_tvs_diode_smf_datasheet.pdf.pdf; ComponentLink2Description: DigiKey Link; ComponentLink2URL: http://digikey.com/product-detail/en/littelfuse-inc/SMF220A/18-SMF220ACT-ND/11206240; LastUpdated: 9/2/2020 1:28:35 AM; Lifecycle Status: Active; Minimum Order: 1; Mounting Type: Surface Mount; Operating Temperature: -65°C ~ 150°C (TJ); Package / Case: SOD-123F; Packaging: TapeAndReel; PartId: 10032; Part Status: Active; Power - Peak Pulse: 200W; Price: 0.12; Series: SMF; Supplier 1: DigiKey; Supplier Part Number 1: 18-SMF220ACT-ND; Supplier Device Package: SOD-123FL; Voltage - Reverse Standoff (Typ): 220V
footprint SOD123F
pins: 1, 2

## SMLJ5.0A
designator D?
TVS DIODE 5V 9.2V SMC; Manufacturer: Bourns Inc.; Current - Peak Pulse (10/1000µs): 326A; Power Line Protection: No; Power - Peak Pulse: 3000W (3kW); Type: Zener; Unidirectional Channels: 1; Voltage - Breakdown (Min): 6.4V; Part Number: SMLJ5.0A; Applications: General Purpose; ComponentLink1Description: Datasheet; ComponentLink1URL: https://www.bourns.com/docs/Product-Datasheets/SMLJ.pdf; ComponentLink2Description: DigiKey Link; ComponentLink2URL: http://digikey.com/product-detail/en/bourns-inc/SMLJ5.0A/SMLJ5.0ABCT-ND/2253612; LastUpdated: 9/2/2020 1:20:02 AM; Lifecycle Status: Active; Minimum Order: 1; Mounting Type: Surface Mount; Operating Temperature: -55°C ~ 150°C (TJ); Package / Case: DO-214AB, SMC; Packaging: TapeAndReel; PartId: 6647; Part Status: Active; Price: 0.43; Series: SMLJ; Supplier 1: DigiKey; Supplier Part Number 1: SMLJ5.0ABCT-ND; Supplier Device Package: SMC (DO-214AB); Voltage - Clamping (Max) @ Ipp: 9.2V; Voltage - Reverse Standoff (Typ): 5V
footprint DO214AB SMC
pins: 1, 2